# Altium footprint library SOL18.PcbLib: 1 footprints
Each footprint in its own frame and in the unit in brackets; x right, y up, seen from the top. Pads: shape width x height; smd on the part's side, far side on the other; paste and mask are expansions set on the pad; w line width, h text height; cw(c..) or ccw(c..) is an arc to the next point about the centre after c.
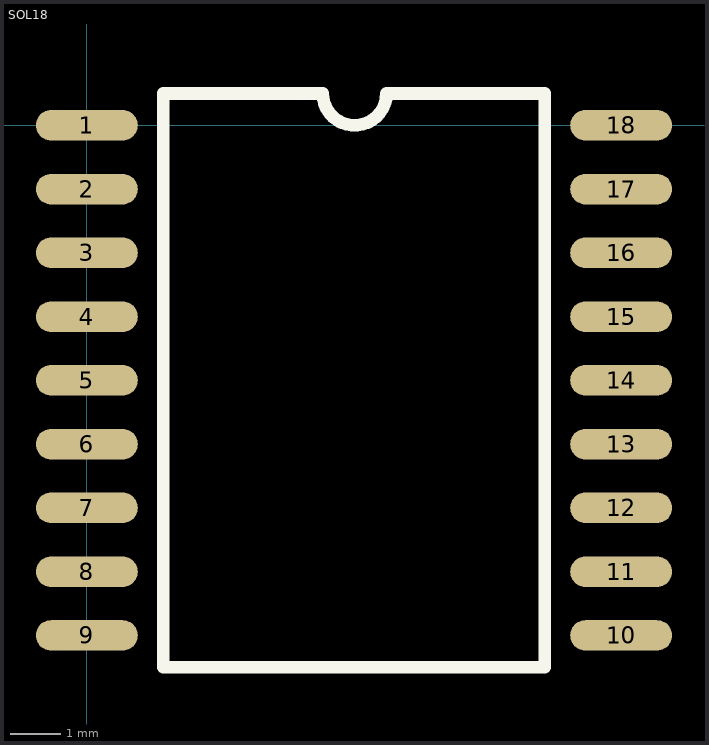
[diagram p0: the footprint, top view; thin cyan lines are the x and y axes]

## SOL18 [mil]
pads (18):
  oval 80x24 smd: 1(0,0) 2(0,-50) 3(0,-100) 4(0,-150) 5(0,-200) 6(0,-250) 7(0,-300) 8(0,-350) 9(0,-400) 10(419,-400) 11(419,-350) 12(419,-300) 13(419,-250) 14(419,-200) 15(419,-150) 16(419,-100) 17(419,-50) 18(419,0)
TopOverlay:
  lines w10: 312,-425 359,-425 359,25 235,25 cw(c210,25) 185,25 60,25 60,-425 320,-425